# Altium schematic symbol library yu0316-NSC_LDO.SchLib: 2590 symbols (part 51 of 64)
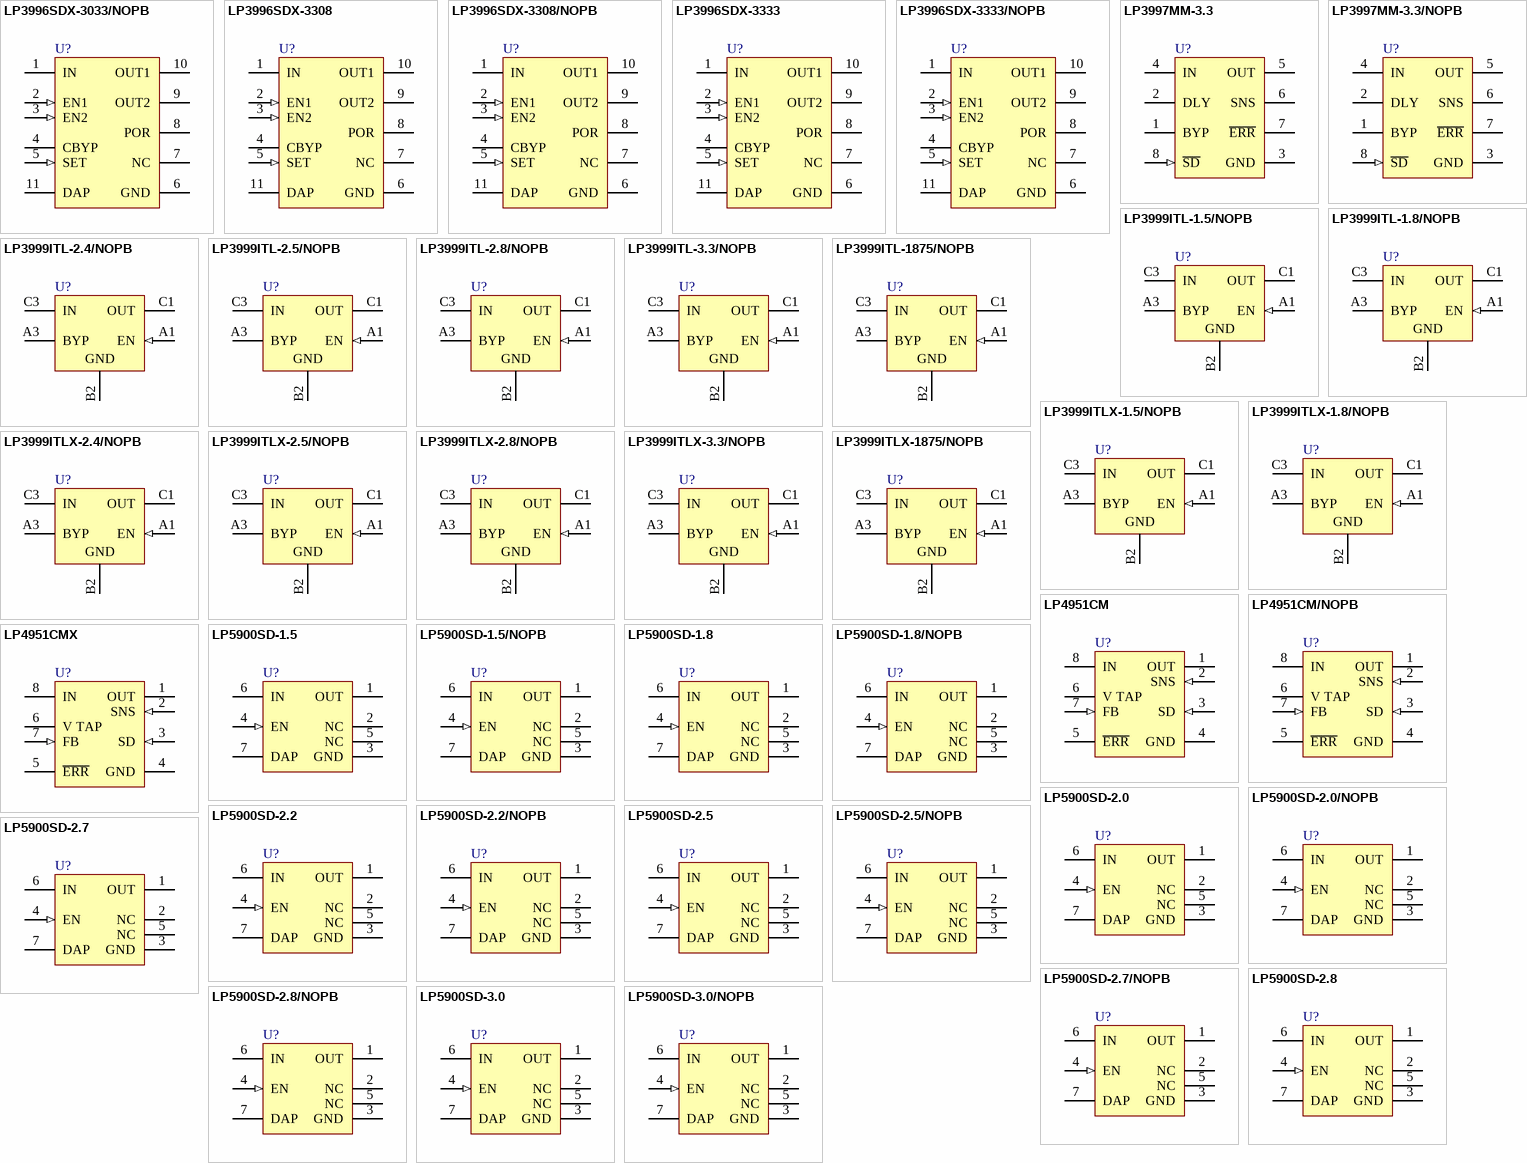
[diagram p115: symbols LP3996SDX-3033/NOPB to LP5900SD-3.0/NOPB]

## LP5900SD-2.0/NOPB
designator U?
Ultra Low Noise, 150mA Linear Regulator for RF/Analog Circuits Requires No Bypass Capacitor, 6-pin LLP, Pb-Free; PartNumber: LP5900SD-2.0/NOPB; Manufacturer: National Semiconductor; PackageTopMarking: XTT*L18; PowerWise: N; CompType: LDO IC; Published: 1-Mar-2010; DatasheetVersion: Jul-2010; PackageVersion: revA, Nov-2003; PackageReference: SDB06A; Publisher: Altium Limited; PackageDescription: LLP, Plastic, Dual, 2.2 x 2.5 x 0.8mm Body, 6 Lead, 0.65mm Pitch, No Pullback; Supplier 1: Digi-Key; Supplier Part Number 1: LP5900SD-2.0TR-ND; Supplier 2: Digi-Key; Supplier Part Number 2: LP5900SD-2.0CT-ND; Supplier 3: Digi-Key; Supplier Part Number 3: LP5900SD-2.0DKR-ND; RoHS: Y; PinCount: 6; ComponentLink1Description: LP5900 Datasheet; ComponentLink1URL: http://www.national.com/ds/LP/LP5900.pdf; ComponentLink2Description: LP5900 Web Page; ComponentLink2URL: http://www.national.com/pf/LP/LP5900.html; ComponentLink3Description: SDB06A Package Page; ComponentLink3URL: http://www.national.com/packaging/folders/sdb06a.html
footprint SDB06A (SON, 6-Leads, Body 2.2x2.5mm, Pitch 0.65mm, NSC Recommended (SC-70 Land))
pins: 1 OUT (power), 2 NC, 3 GND (power), 4 EN (in), 5 NC, 6 IN (power), 7 DAP (power)

## LP5900SD-2.2
designator U?
Ultra Low Noise, 150mA Linear Regulator for RF/Analog Circuits Requires No Bypass Capacitor, 6-pin LLP; PartNumber: LP5900SD-2.2; Manufacturer: National Semiconductor; PackageTopMarking: XTT*L19; PowerWise: N; CompType: LDO IC; Published: 4-Dec-2008; DatasheetVersion: Jul-2010; PackageVersion: revA, Nov-2003; PackageReference: SDB06A; Publisher: Altium Limited; PackageDescription: LLP, Plastic, Dual, 2.2 x 2.5 x 0.8mm Body, 6 Lead, 0.65mm Pitch, No Pullback; Supplier 1: Farnell; Supplier Part Number 1: 1312644; RoHS: N; PinCount: 6; ComponentLink1Description: LP5900 Datasheet; ComponentLink1URL: http://www.national.com/ds/LP/LP5900.pdf; ComponentLink2Description: LP5900 Web Page; ComponentLink2URL: http://www.national.com/pf/LP/LP5900.html; ComponentLink3Description: SDB06A Package Page; ComponentLink3URL: http://www.national.com/packaging/folders/sdb06a.html
footprint SDB06A (SON, 6-Leads, Body 2.2x2.5mm, Pitch 0.65mm, NSC Recommended (SC-70 Land))
pins: 1 OUT (power), 2 NC, 3 GND (power), 4 EN (in), 5 NC, 6 IN (power), 7 DAP (power)

## LP5900SD-2.2/NOPB
designator U?
Ultra Low Noise, 150mA Linear Regulator for RF/Analog Circuits Requires No Bypass Capacitor, 6-pin LLP, Pb-Free; PartNumber: LP5900SD-2.2/NOPB; Manufacturer: National Semiconductor; PackageTopMarking: XTT*L19; PowerWise: N; CompType: LDO IC; Published: 1-Mar-2010; DatasheetVersion: Jul-2010; PackageVersion: revA, Nov-2003; PackageReference: SDB06A; Publisher: Altium Limited; PackageDescription: LLP, Plastic, Dual, 2.2 x 2.5 x 0.8mm Body, 6 Lead, 0.65mm Pitch, No Pullback; Supplier 1: Digi-Key; Supplier Part Number 1: LP5900SD-2.2TR-ND; Supplier 2: Digi-Key; Supplier Part Number 2: LP5900SD-2.2CT-ND; RoHS: Y; PinCount: 6; ComponentLink1Description: LP5900 Datasheet; ComponentLink1URL: http://www.national.com/ds/LP/LP5900.pdf; ComponentLink2Description: LP5900 Web Page; ComponentLink2URL: http://www.national.com/pf/LP/LP5900.html; ComponentLink3Description: SDB06A Package Page; ComponentLink3URL: http://www.national.com/packaging/folders/sdb06a.html
footprint SDB06A (SON, 6-Leads, Body 2.2x2.5mm, Pitch 0.65mm, NSC Recommended (SC-70 Land))
pins: 1 OUT (power), 2 NC, 3 GND (power), 4 EN (in), 5 NC, 6 IN (power), 7 DAP (power)

## LP5900SD-2.5
designator U?
Ultra Low Noise, 150mA Linear Regulator for RF/Analog Circuits Requires No Bypass Capacitor, 6-pin LLP; PartNumber: LP5900SD-2.5; Manufacturer: National Semiconductor; PackageTopMarking: XTT*L13; PowerWise: N; CompType: LDO IC; Published: 4-Dec-2008; DatasheetVersion: Jul-2010; PackageVersion: revA, Nov-2003; PackageReference: SDB06A; Publisher: Altium Limited; PackageDescription: LLP, Plastic, Dual, 2.2 x 2.5 x 0.8mm Body, 6 Lead, 0.65mm Pitch, No Pullback; Supplier 1: Farnell; Supplier Part Number 1: 1312645; RoHS: N; PinCount: 6; ComponentLink1Description: LP5900 Datasheet; ComponentLink1URL: http://www.national.com/ds/LP/LP5900.pdf; ComponentLink2Description: LP5900 Web Page; ComponentLink2URL: http://www.national.com/pf/LP/LP5900.html; ComponentLink3Description: SDB06A Package Page; ComponentLink3URL: http://www.national.com/packaging/folders/sdb06a.html
footprint SDB06A (SON, 6-Leads, Body 2.2x2.5mm, Pitch 0.65mm, NSC Recommended (SC-70 Land))
pins: 1 OUT (power), 2 NC, 3 GND (power), 4 EN (in), 5 NC, 6 IN (power), 7 DAP (power)

## LP5900SD-2.5/NOPB
designator U?
Ultra Low Noise, 150mA Linear Regulator for RF/Analog Circuits Requires No Bypass Capacitor, 6-pin LLP, Pb-Free; PartNumber: LP5900SD-2.5/NOPB; Manufacturer: National Semiconductor; PackageTopMarking: XTT*L13; PowerWise: N; CompType: LDO IC; Published: 1-Mar-2010; DatasheetVersion: Jul-2010; PackageVersion: revA, Nov-2003; PackageReference: SDB06A; Publisher: Altium Limited; PackageDescription: LLP, Plastic, Dual, 2.2 x 2.5 x 0.8mm Body, 6 Lead, 0.65mm Pitch, No Pullback; Supplier 1: Digi-Key; Supplier Part Number 1: LP5900SD-2.5TR-ND; Supplier 2: Digi-Key; Supplier Part Number 2: LP5900SD-2.5CT-ND; Supplier 3: Digi-Key; Supplier Part Number 3: LP5900SD-2.5DKR-ND; Supplier 4: Farnell; Supplier Part Number 4: 1693897; RoHS: Y; PinCount: 6; ComponentLink1Description: LP5900 Datasheet; ComponentLink1URL: http://www.national.com/ds/LP/LP5900.pdf; ComponentLink2Description: LP5900 Web Page; ComponentLink2URL: http://www.national.com/pf/LP/LP5900.html; ComponentLink3Description: SDB06A Package Page; ComponentLink3URL: http://www.national.com/packaging/folders/sdb06a.html
footprint SDB06A (SON, 6-Leads, Body 2.2x2.5mm, Pitch 0.65mm, NSC Recommended (SC-70 Land))
pins: 1 OUT (power), 2 NC, 3 GND (power), 4 EN (in), 5 NC, 6 IN (power), 7 DAP (power)

## LP5900SD-2.7
designator U?
Ultra Low Noise, 150mA Linear Regulator for RF/Analog Circuits Requires No Bypass Capacitor, 6-pin LLP; PartNumber: LP5900SD-2.7; Manufacturer: National Semiconductor; PackageTopMarking: XTT*L14; PowerWise: N; CompType: LDO IC; Published: 4-Dec-2008; DatasheetVersion: Jul-2010; PackageVersion: revA, Nov-2003; PackageReference: SDB06A; Publisher: Altium Limited; PackageDescription: LLP, Plastic, Dual, 2.2 x 2.5 x 0.8mm Body, 6 Lead, 0.65mm Pitch, No Pullback; RoHS: N; PinCount: 6; ComponentLink1Description: LP5900 Datasheet; ComponentLink1URL: http://www.national.com/ds/LP/LP5900.pdf; ComponentLink2Description: LP5900 Web Page; ComponentLink2URL: http://www.national.com/pf/LP/LP5900.html; ComponentLink3Description: SDB06A Package Page; ComponentLink3URL: http://www.national.com/packaging/folders/sdb06a.html
footprint SDB06A (SON, 6-Leads, Body 2.2x2.5mm, Pitch 0.65mm, NSC Recommended (SC-70 Land))
pins: 1 OUT (power), 2 NC, 3 GND (power), 4 EN (in), 5 NC, 6 IN (power), 7 DAP (power)

## LP5900SD-2.7/NOPB
designator U?
Ultra Low Noise, 150mA Linear Regulator for RF/Analog Circuits Requires No Bypass Capacitor, 6-pin LLP, Pb-Free; PartNumber: LP5900SD-2.7/NOPB; Manufacturer: National Semiconductor; PackageTopMarking: XTT*L14; PowerWise: N; CompType: LDO IC; Published: 1-Mar-2010; DatasheetVersion: Jul-2010; PackageVersion: revA, Nov-2003; PackageReference: SDB06A; Publisher: Altium Limited; PackageDescription: LLP, Plastic, Dual, 2.2 x 2.5 x 0.8mm Body, 6 Lead, 0.65mm Pitch, No Pullback; Supplier 1: Digi-Key; Supplier Part Number 1: LP5900SD-2.7TR-ND; Supplier 2: Digi-Key; Supplier Part Number 2: LP5900SD-2.7CT-ND; RoHS: Y; PinCount: 6; ComponentLink1Description: LP5900 Datasheet; ComponentLink1URL: http://www.national.com/ds/LP/LP5900.pdf; ComponentLink2Description: LP5900 Web Page; ComponentLink2URL: http://www.national.com/pf/LP/LP5900.html; ComponentLink3Description: SDB06A Package Page; ComponentLink3URL: http://www.national.com/packaging/folders/sdb06a.html
footprint SDB06A (SON, 6-Leads, Body 2.2x2.5mm, Pitch 0.65mm, NSC Recommended (SC-70 Land))
pins: 1 OUT (power), 2 NC, 3 GND (power), 4 EN (in), 5 NC, 6 IN (power), 7 DAP (power)

## LP5900SD-2.8
designator U?
Ultra Low Noise, 150mA Linear Regulator for RF/Analog Circuits Requires No Bypass Capacitor, 6-pin LLP; PartNumber: LP5900SD-2.8; Manufacturer: National Semiconductor; PackageTopMarking: XTT*L12; PowerWise: N; CompType: LDO IC; Published: 4-Dec-2008; DatasheetVersion: Jul-2010; PackageVersion: revA, Nov-2003; PackageReference: SDB06A; Publisher: Altium Limited; PackageDescription: LLP, Plastic, Dual, 2.2 x 2.5 x 0.8mm Body, 6 Lead, 0.65mm Pitch, No Pullback; Supplier 1: Farnell; Supplier Part Number 1: 1312646; RoHS: N; PinCount: 6; ComponentLink1Description: LP5900 Datasheet; ComponentLink1URL: http://www.national.com/ds/LP/LP5900.pdf; ComponentLink2Description: LP5900 Web Page; ComponentLink2URL: http://www.national.com/pf/LP/LP5900.html; ComponentLink3Description: SDB06A Package Page; ComponentLink3URL: http://www.national.com/packaging/folders/sdb06a.html
footprint SDB06A (SON, 6-Leads, Body 2.2x2.5mm, Pitch 0.65mm, NSC Recommended (SC-70 Land))
pins: 1 OUT (power), 2 NC, 3 GND (power), 4 EN (in), 5 NC, 6 IN (power), 7 DAP (power)

## LP5900SD-2.8/NOPB
designator U?
Ultra Low Noise, 150mA Linear Regulator for RF/Analog Circuits Requires No Bypass Capacitor, 6-pin LLP, Pb-Free; PartNumber: LP5900SD-2.8/NOPB; Manufacturer: National Semiconductor; PackageTopMarking: XTT*L12; PowerWise: N; CompType: LDO IC; Published: 1-Mar-2010; DatasheetVersion: Jul-2010; PackageVersion: revA, Nov-2003; PackageReference: SDB06A; Publisher: Altium Limited; PackageDescription: LLP, Plastic, Dual, 2.2 x 2.5 x 0.8mm Body, 6 Lead, 0.65mm Pitch, No Pullback; Supplier 1: Digi-Key; Supplier Part Number 1: LP5900SD-2.8TR-ND; Supplier 2: Digi-Key; Supplier Part Number 2: LP5900SD-2.8CT-ND; Supplier 3: Digi-Key; Supplier Part Number 3: LP5900SD-2.8DKR-ND; Supplier 4: Farnell; Supplier Part Number 4: 1693898; RoHS: Y; PinCount: 6; ComponentLink1Description: LP5900 Datasheet; ComponentLink1URL: http://www.national.com/ds/LP/LP5900.pdf; ComponentLink2Description: LP5900 Web Page; ComponentLink2URL: http://www.national.com/pf/LP/LP5900.html; ComponentLink3Description: SDB06A Package Page; ComponentLink3URL: http://www.national.com/packaging/folders/sdb06a.html
footprint SDB06A (SON, 6-Leads, Body 2.2x2.5mm, Pitch 0.65mm, NSC Recommended (SC-70 Land))
pins: 1 OUT (power), 2 NC, 3 GND (power), 4 EN (in), 5 NC, 6 IN (power), 7 DAP (power)

## LP5900SD-3.0
designator U?
Ultra Low Noise, 150mA Linear Regulator for RF/Analog Circuits Requires No Bypass Capacitor, 6-pin LLP; PartNumber: LP5900SD-3.0; Manufacturer: National Semiconductor; PackageTopMarking: XTT*L20; PowerWise: N; CompType: LDO IC; Published: 4-Dec-2008; DatasheetVersion: Jul-2010; PackageVersion: revA, Nov-2003; PackageReference: SDB06A; Publisher: Altium Limited; PackageDescription: LLP, Plastic, Dual, 2.2 x 2.5 x 0.8mm Body, 6 Lead, 0.65mm Pitch, No Pullback; Supplier 1: Farnell; Supplier Part Number 1: 1312647; RoHS: Y; PinCount: 6; ComponentLink1Description: LP5900 Datasheet; ComponentLink1URL: http://www.national.com/ds/LP/LP5900.pdf; ComponentLink2Description: LP5900 Web Page; ComponentLink2URL: http://www.national.com/pf/LP/LP5900.html; ComponentLink3Description: SDB06A Package Page; ComponentLink3URL: http://www.national.com/packaging/folders/sdb06a.html
footprint SDB06A (SON, 6-Leads, Body 2.2x2.5mm, Pitch 0.65mm, NSC Recommended (SC-70 Land))
pins: 1 OUT (power), 2 NC, 3 GND (power), 4 EN (in), 5 NC, 6 IN (power), 7 DAP (power)

## LP5900SD-3.0/NOPB
designator U?
Ultra Low Noise, 150mA Linear Regulator for RF/Analog Circuits Requires No Bypass Capacitor, 6-pin LLP, Pb-Free; PartNumber: LP5900SD-3.0/NOPB; Manufacturer: National Semiconductor; PackageTopMarking: XTT*L20; PowerWise: N; CompType: LDO IC; Published: 1-Mar-2010; DatasheetVersion: Jul-2010; PackageVersion: revA, Nov-2003; PackageReference: SDB06A; Publisher: Altium Limited; PackageDescription: LLP, Plastic, Dual, 2.2 x 2.5 x 0.8mm Body, 6 Lead, 0.65mm Pitch, No Pullback; Supplier 1: Digi-Key; Supplier Part Number 1: LP5900SD-3.0TR-ND; Supplier 2: Digi-Key; Supplier Part Number 2: LP5900SD-3.0CT-ND; Supplier 3: Digi-Key; Supplier Part Number 3: LP5900SD-3.0DKR-ND; Supplier 4: Farnell; Supplier Part Number 4: 1559253; RoHS: Y; PinCount: 6; ComponentLink1Description: LP5900 Datasheet; ComponentLink1URL: http://www.national.com/ds/LP/LP5900.pdf; ComponentLink2Description: LP5900 Web Page; ComponentLink2URL: http://www.national.com/pf/LP/LP5900.html; ComponentLink3Description: SDB06A Package Page; ComponentLink3URL: http://www.national.com/packaging/folders/sdb06a.html
footprint SDB06A (SON, 6-Leads, Body 2.2x2.5mm, Pitch 0.65mm, NSC Recommended (SC-70 Land))
pins: 1 OUT (power), 2 NC, 3 GND (power), 4 EN (in), 5 NC, 6 IN (power), 7 DAP (power)

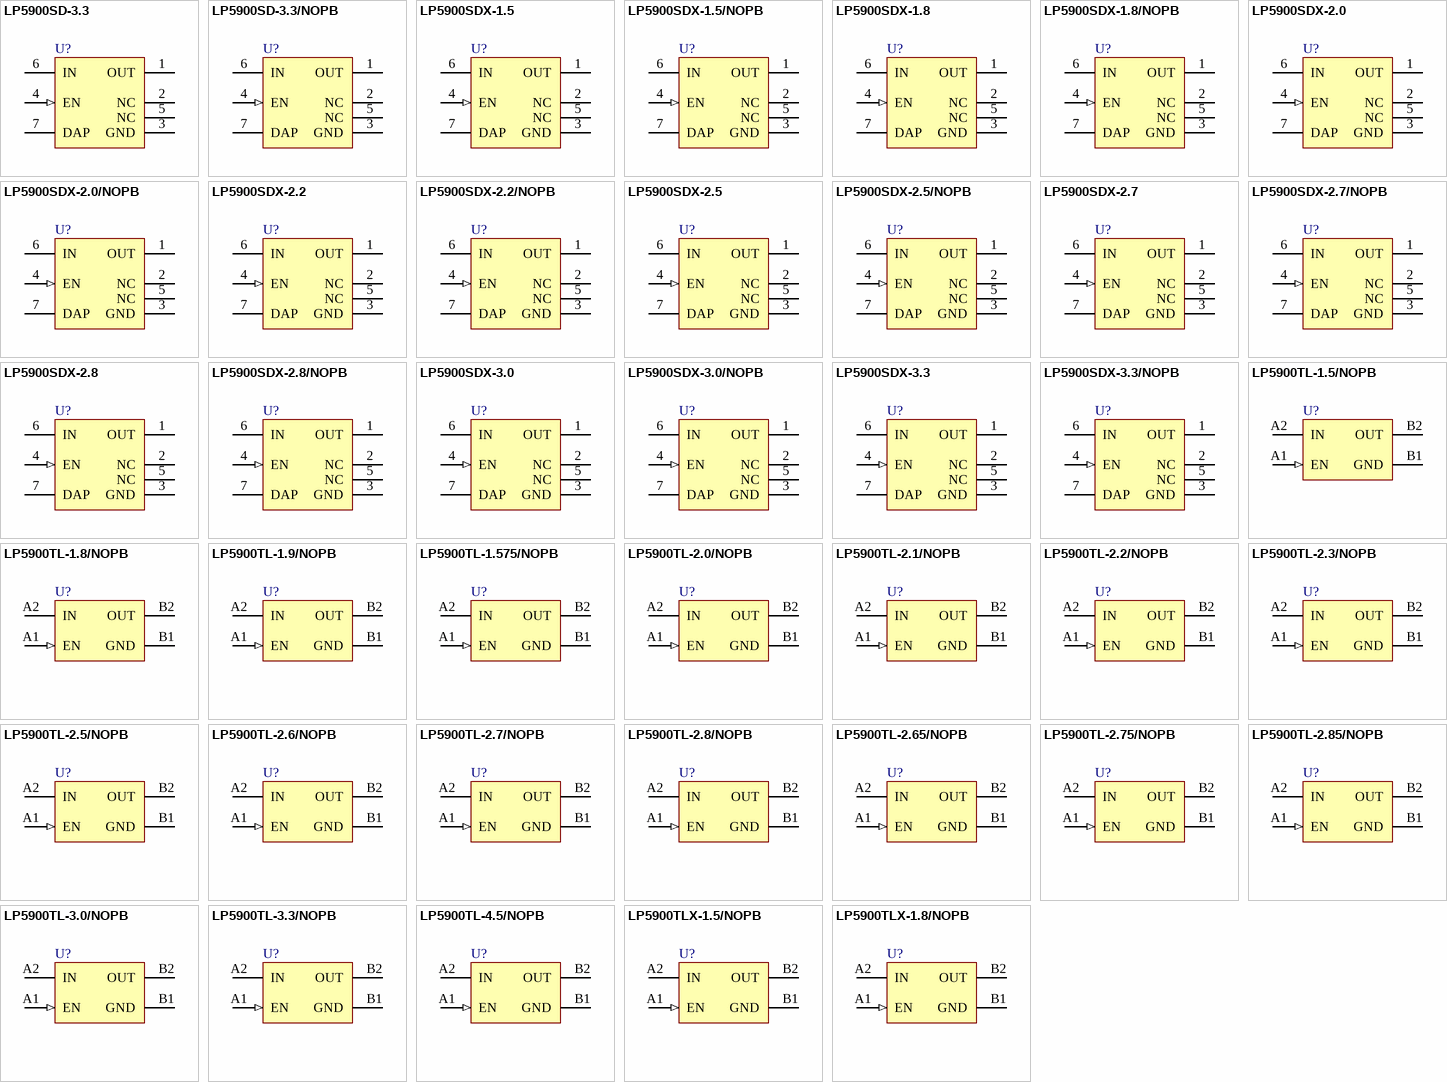
[diagram p52: symbols LP5900SD-3.3 to LP5900TLX-1.8/NOPB]

## LP5900SD-3.3
designator U?
Ultra Low Noise, 150mA Linear Regulator for RF/Analog Circuits Requires No Bypass Capacitor, 6-pin LLP; PartNumber: LP5900SD-3.3; Manufacturer: National Semiconductor; PackageTopMarking: XTT*L16; PowerWise: N; CompType: LDO IC; Published: 4-Dec-2008; DatasheetVersion: Jul-2010; PackageVersion: revA, Nov-2003; PackageReference: SDB06A; Publisher: Altium Limited; PackageDescription: LLP, Plastic, Dual, 2.2 x 2.5 x 0.8mm Body, 6 Lead, 0.65mm Pitch, No Pullback; Supplier 1: Farnell; Supplier Part Number 1: 1312648; RoHS: Y; PinCount: 6; ComponentLink1Description: LP5900 Datasheet; ComponentLink1URL: http://www.national.com/ds/LP/LP5900.pdf; ComponentLink2Description: LP5900 Web Page; ComponentLink2URL: http://www.national.com/pf/LP/LP5900.html; ComponentLink3Description: SDB06A Package Page; ComponentLink3URL: http://www.national.com/packaging/folders/sdb06a.html
footprint SDB06A (SON, 6-Leads, Body 2.2x2.5mm, Pitch 0.65mm, NSC Recommended (SC-70 Land))
pins: 1 OUT (power), 2 NC, 3 GND (power), 4 EN (in), 5 NC, 6 IN (power), 7 DAP (power)

## LP5900SD-3.3/NOPB
designator U?
Ultra Low Noise, 150mA Linear Regulator for RF/Analog Circuits Requires No Bypass Capacitor, 6-pin LLP, Pb-Free; PartNumber: LP5900SD-3.3/NOPB; Manufacturer: National Semiconductor; PackageTopMarking: XTT*L16; PowerWise: N; CompType: LDO IC; Published: 1-Mar-2010; DatasheetVersion: Jul-2010; PackageVersion: revA, Nov-2003; PackageReference: SDB06A; Publisher: Altium Limited; PackageDescription: LLP, Plastic, Dual, 2.2 x 2.5 x 0.8mm Body, 6 Lead, 0.65mm Pitch, No Pullback; Supplier 1: Digi-Key; Supplier Part Number 1: LP5900SD-3.3TR-ND; Supplier 2: Digi-Key; Supplier Part Number 2: LP5900SD-3.3CT-ND; Supplier 3: Digi-Key; Supplier Part Number 3: LP5900SD-3.3DKR-ND; Supplier 4: Farnell; Supplier Part Number 4: 1559255; RoHS: Y; PinCount: 6; ComponentLink1Description: LP5900 Datasheet; ComponentLink1URL: http://www.national.com/ds/LP/LP5900.pdf; ComponentLink2Description: LP5900 Web Page; ComponentLink2URL: http://www.national.com/pf/LP/LP5900.html; ComponentLink3Description: SDB06A Package Page; ComponentLink3URL: http://www.national.com/packaging/folders/sdb06a.html
footprint SDB06A (SON, 6-Leads, Body 2.2x2.5mm, Pitch 0.65mm, NSC Recommended (SC-70 Land))
pins: 1 OUT (power), 2 NC, 3 GND (power), 4 EN (in), 5 NC, 6 IN (power), 7 DAP (power)

## LP5900SDX-1.5
designator U?
Ultra Low Noise, 150mA Linear Regulator for RF/Analog Circuits Requires No Bypass Capacitor, 6-pin LLP; PartNumber: LP5900SDX-1.5; Manufacturer: National Semiconductor; PackageTopMarking: XTT*L15; PowerWise: N; CompType: LDO IC; Published: 1-Mar-2010; DatasheetVersion: Jul-2010; PackageVersion: revA, Nov-2003; PackageReference: SDB06A; Publisher: Altium Limited; PackageDescription: LLP, Plastic, Dual, 2.2 x 2.5 x 0.8mm Body, 6 Lead, 0.65mm Pitch, No Pullback; RoHS: N; PinCount: 6; ComponentLink1Description: LP5900 Datasheet; ComponentLink1URL: http://www.national.com/ds/LP/LP5900.pdf; ComponentLink2Description: LP5900 Web Page; ComponentLink2URL: http://www.national.com/pf/LP/LP5900.html; ComponentLink3Description: SDB06A Package Page; ComponentLink3URL: http://www.national.com/packaging/folders/sdb06a.html
footprint SDB06A (SON, 6-Leads, Body 2.2x2.5mm, Pitch 0.65mm, NSC Recommended (SC-70 Land))
pins: 1 OUT (power), 2 NC, 3 GND (power), 4 EN (in), 5 NC, 6 IN (power), 7 DAP (power)

## LP5900SDX-1.5/NOPB
designator U?
Ultra Low Noise, 150mA Linear Regulator for RF/Analog Circuits Requires No Bypass Capacitor, 6-pin LLP, Pb-Free; PartNumber: LP5900SDX-1.5/NOPB; Manufacturer: National Semiconductor; PackageTopMarking: XTT*L15; PowerWise: N; CompType: LDO IC; Published: 1-Mar-2010; DatasheetVersion: Jul-2010; PackageVersion: revA, Nov-2003; PackageReference: SDB06A; Publisher: Altium Limited; PackageDescription: LLP, Plastic, Dual, 2.2 x 2.5 x 0.8mm Body, 6 Lead, 0.65mm Pitch, No Pullback; Supplier 1: Digi-Key; Supplier Part Number 1: LP5900SDX-1.5-ND; RoHS: Y; PinCount: 6; ComponentLink1Description: LP5900 Datasheet; ComponentLink1URL: http://www.national.com/ds/LP/LP5900.pdf; ComponentLink2Description: LP5900 Web Page; ComponentLink2URL: http://www.national.com/pf/LP/LP5900.html; ComponentLink3Description: SDB06A Package Page; ComponentLink3URL: http://www.national.com/packaging/folders/sdb06a.html
footprint SDB06A (SON, 6-Leads, Body 2.2x2.5mm, Pitch 0.65mm, NSC Recommended (SC-70 Land))
pins: 1 OUT (power), 2 NC, 3 GND (power), 4 EN (in), 5 NC, 6 IN (power), 7 DAP (power)

## LP5900SDX-1.8
designator U?
Ultra Low Noise, 150mA Linear Regulator for RF/Analog Circuits Requires No Bypass Capacitor, 6-pin LLP; PartNumber: LP5900SDX-1.8; Manufacturer: National Semiconductor; PackageTopMarking: XTT*L17; PowerWise: N; CompType: LDO IC; Published: 1-Mar-2010; DatasheetVersion: Jul-2010; PackageVersion: revA, Nov-2003; PackageReference: SDB06A; Publisher: Altium Limited; PackageDescription: LLP, Plastic, Dual, 2.2 x 2.5 x 0.8mm Body, 6 Lead, 0.65mm Pitch, No Pullback; RoHS: N; PinCount: 6; ComponentLink1Description: LP5900 Datasheet; ComponentLink1URL: http://www.national.com/ds/LP/LP5900.pdf; ComponentLink2Description: LP5900 Web Page; ComponentLink2URL: http://www.national.com/pf/LP/LP5900.html; ComponentLink3Description: SDB06A Package Page; ComponentLink3URL: http://www.national.com/packaging/folders/sdb06a.html
footprint SDB06A (SON, 6-Leads, Body 2.2x2.5mm, Pitch 0.65mm, NSC Recommended (SC-70 Land))
pins: 1 OUT (power), 2 NC, 3 GND (power), 4 EN (in), 5 NC, 6 IN (power), 7 DAP (power)

## LP5900SDX-1.8/NOPB
designator U?
Ultra Low Noise, 150mA Linear Regulator for RF/Analog Circuits Requires No Bypass Capacitor, 6-pin LLP, Pb-Free; PartNumber: LP5900SDX-1.8/NOPB; Manufacturer: National Semiconductor; PackageTopMarking: XTT*L17; PowerWise: N; CompType: LDO IC; Published: 1-Mar-2010; DatasheetVersion: Jul-2010; PackageVersion: revA, Nov-2003; PackageReference: SDB06A; Publisher: Altium Limited; PackageDescription: LLP, Plastic, Dual, 2.2 x 2.5 x 0.8mm Body, 6 Lead, 0.65mm Pitch, No Pullback; Supplier 1: Digi-Key; Supplier Part Number 1: LP5900SDX-1.8-ND; RoHS: Y; PinCount: 6; ComponentLink1Description: LP5900 Datasheet; ComponentLink1URL: http://www.national.com/ds/LP/LP5900.pdf; ComponentLink2Description: LP5900 Web Page; ComponentLink2URL: http://www.national.com/pf/LP/LP5900.html; ComponentLink3Description: SDB06A Package Page; ComponentLink3URL: http://www.national.com/packaging/folders/sdb06a.html
footprint SDB06A (SON, 6-Leads, Body 2.2x2.5mm, Pitch 0.65mm, NSC Recommended (SC-70 Land))
pins: 1 OUT (power), 2 NC, 3 GND (power), 4 EN (in), 5 NC, 6 IN (power), 7 DAP (power)

## LP5900SDX-2.0
designator U?
Ultra Low Noise, 150mA Linear Regulator for RF/Analog Circuits Requires No Bypass Capacitor, 6-pin LLP; PartNumber: LP5900SDX-2.0; Manufacturer: National Semiconductor; PackageTopMarking: XTT*L18; PowerWise: N; CompType: LDO IC; Published: 1-Mar-2010; DatasheetVersion: Jul-2010; PackageVersion: revA, Nov-2003; PackageReference: SDB06A; Publisher: Altium Limited; PackageDescription: LLP, Plastic, Dual, 2.2 x 2.5 x 0.8mm Body, 6 Lead, 0.65mm Pitch, No Pullback; RoHS: N; PinCount: 6; ComponentLink1Description: LP5900 Datasheet; ComponentLink1URL: http://www.national.com/ds/LP/LP5900.pdf; ComponentLink2Description: LP5900 Web Page; ComponentLink2URL: http://www.national.com/pf/LP/LP5900.html; ComponentLink3Description: SDB06A Package Page; ComponentLink3URL: http://www.national.com/packaging/folders/sdb06a.html
footprint SDB06A (SON, 6-Leads, Body 2.2x2.5mm, Pitch 0.65mm, NSC Recommended (SC-70 Land))
pins: 1 OUT (power), 2 NC, 3 GND (power), 4 EN (in), 5 NC, 6 IN (power), 7 DAP (power)

## LP5900SDX-2.0/NOPB
designator U?
Ultra Low Noise, 150mA Linear Regulator for RF/Analog Circuits Requires No Bypass Capacitor, 6-pin LLP, Pb-Free; PartNumber: LP5900SDX-2.0/NOPB; Manufacturer: National Semiconductor; PackageTopMarking: XTT*L18; PowerWise: N; CompType: LDO IC; Published: 1-Mar-2010; DatasheetVersion: Jul-2010; PackageVersion: revA, Nov-2003; PackageReference: SDB06A; Publisher: Altium Limited; PackageDescription: LLP, Plastic, Dual, 2.2 x 2.5 x 0.8mm Body, 6 Lead, 0.65mm Pitch, No Pullback; Supplier 1: Digi-Key; Supplier Part Number 1: LP5900SDX-2.0-ND; RoHS: Y; PinCount: 6; ComponentLink1Description: LP5900 Datasheet; ComponentLink1URL: http://www.national.com/ds/LP/LP5900.pdf; ComponentLink2Description: LP5900 Web Page; ComponentLink2URL: http://www.national.com/pf/LP/LP5900.html; ComponentLink3Description: SDB06A Package Page; ComponentLink3URL: http://www.national.com/packaging/folders/sdb06a.html
footprint SDB06A (SON, 6-Leads, Body 2.2x2.5mm, Pitch 0.65mm, NSC Recommended (SC-70 Land))
pins: 1 OUT (power), 2 NC, 3 GND (power), 4 EN (in), 5 NC, 6 IN (power), 7 DAP (power)

## LP5900SDX-2.2
designator U?
Ultra Low Noise, 150mA Linear Regulator for RF/Analog Circuits Requires No Bypass Capacitor, 6-pin LLP; PartNumber: LP5900SDX-2.2; Manufacturer: National Semiconductor; PackageTopMarking: XTT*L19; PowerWise: N; CompType: LDO IC; Published: 1-Mar-2010; DatasheetVersion: Jul-2010; PackageVersion: revA, Nov-2003; PackageReference: SDB06A; Publisher: Altium Limited; PackageDescription: LLP, Plastic, Dual, 2.2 x 2.5 x 0.8mm Body, 6 Lead, 0.65mm Pitch, No Pullback; RoHS: N; PinCount: 6; ComponentLink1Description: LP5900 Datasheet; ComponentLink1URL: http://www.national.com/ds/LP/LP5900.pdf; ComponentLink2Description: LP5900 Web Page; ComponentLink2URL: http://www.national.com/pf/LP/LP5900.html; ComponentLink3Description: SDB06A Package Page; ComponentLink3URL: http://www.national.com/packaging/folders/sdb06a.html
footprint SDB06A (SON, 6-Leads, Body 2.2x2.5mm, Pitch 0.65mm, NSC Recommended (SC-70 Land))
pins: 1 OUT (power), 2 NC, 3 GND (power), 4 EN (in), 5 NC, 6 IN (power), 7 DAP (power)

## LP5900SDX-2.2/NOPB
designator U?
Ultra Low Noise, 150mA Linear Regulator for RF/Analog Circuits Requires No Bypass Capacitor, 6-pin LLP, Pb-Free; PartNumber: LP5900SDX-2.2/NOPB; Manufacturer: National Semiconductor; PackageTopMarking: XTT*L19; PowerWise: N; CompType: LDO IC; Published: 1-Mar-2010; DatasheetVersion: Jul-2010; PackageVersion: revA, Nov-2003; PackageReference: SDB06A; Publisher: Altium Limited; PackageDescription: LLP, Plastic, Dual, 2.2 x 2.5 x 0.8mm Body, 6 Lead, 0.65mm Pitch, No Pullback; Supplier 1: Digi-Key; Supplier Part Number 1: LP5900SDX-2.2-ND; RoHS: Y; PinCount: 6; ComponentLink1Description: LP5900 Datasheet; ComponentLink1URL: http://www.national.com/ds/LP/LP5900.pdf; ComponentLink2Description: LP5900 Web Page; ComponentLink2URL: http://www.national.com/pf/LP/LP5900.html; ComponentLink3Description: SDB06A Package Page; ComponentLink3URL: http://www.national.com/packaging/folders/sdb06a.html
footprint SDB06A (SON, 6-Leads, Body 2.2x2.5mm, Pitch 0.65mm, NSC Recommended (SC-70 Land))
pins: 1 OUT (power), 2 NC, 3 GND (power), 4 EN (in), 5 NC, 6 IN (power), 7 DAP (power)

## LP5900SDX-2.5
designator U?
Ultra Low Noise, 150mA Linear Regulator for RF/Analog Circuits Requires No Bypass Capacitor, 6-pin LLP; PartNumber: LP5900SDX-2.5; Manufacturer: National Semiconductor; PackageTopMarking: XTT*L13; PowerWise: N; CompType: LDO IC; Published: 1-Mar-2010; DatasheetVersion: Jul-2010; PackageVersion: revA, Nov-2003; PackageReference: SDB06A; Publisher: Altium Limited; PackageDescription: LLP, Plastic, Dual, 2.2 x 2.5 x 0.8mm Body, 6 Lead, 0.65mm Pitch, No Pullback; RoHS: N; PinCount: 6; ComponentLink1Description: LP5900 Datasheet; ComponentLink1URL: http://www.national.com/ds/LP/LP5900.pdf; ComponentLink2Description: LP5900 Web Page; ComponentLink2URL: http://www.national.com/pf/LP/LP5900.html; ComponentLink3Description: SDB06A Package Page; ComponentLink3URL: http://www.national.com/packaging/folders/sdb06a.html
footprint SDB06A (SON, 6-Leads, Body 2.2x2.5mm, Pitch 0.65mm, NSC Recommended (SC-70 Land))
pins: 1 OUT (power), 2 NC, 3 GND (power), 4 EN (in), 5 NC, 6 IN (power), 7 DAP (power)

## LP5900SDX-2.5/NOPB
designator U?
Ultra Low Noise, 150mA Linear Regulator for RF/Analog Circuits Requires No Bypass Capacitor, 6-pin LLP, Pb-Free; PartNumber: LP5900SDX-2.5/NOPB; Manufacturer: National Semiconductor; PackageTopMarking: XTT*L13; PowerWise: N; CompType: LDO IC; Published: 1-Mar-2010; DatasheetVersion: Jul-2010; PackageVersion: revA, Nov-2003; PackageReference: SDB06A; Publisher: Altium Limited; PackageDescription: LLP, Plastic, Dual, 2.2 x 2.5 x 0.8mm Body, 6 Lead, 0.65mm Pitch, No Pullback; Supplier 1: Digi-Key; Supplier Part Number 1: LP5900SDX-2.5-ND; RoHS: Y; PinCount: 6; ComponentLink1Description: LP5900 Datasheet; ComponentLink1URL: http://www.national.com/ds/LP/LP5900.pdf; ComponentLink2Description: LP5900 Web Page; ComponentLink2URL: http://www.national.com/pf/LP/LP5900.html; ComponentLink3Description: SDB06A Package Page; ComponentLink3URL: http://www.national.com/packaging/folders/sdb06a.html
footprint SDB06A (SON, 6-Leads, Body 2.2x2.5mm, Pitch 0.65mm, NSC Recommended (SC-70 Land))
pins: 1 OUT (power), 2 NC, 3 GND (power), 4 EN (in), 5 NC, 6 IN (power), 7 DAP (power)

## LP5900SDX-2.7
designator U?
Ultra Low Noise, 150mA Linear Regulator for RF/Analog Circuits Requires No Bypass Capacitor, 6-pin LLP; PartNumber: LP5900SDX-2.7; Manufacturer: National Semiconductor; PackageTopMarking: XTT*L14; PowerWise: N; CompType: LDO IC; Published: 1-Mar-2010; DatasheetVersion: Jul-2010; PackageVersion: revA, Nov-2003; PackageReference: SDB06A; Publisher: Altium Limited; PackageDescription: LLP, Plastic, Dual, 2.2 x 2.5 x 0.8mm Body, 6 Lead, 0.65mm Pitch, No Pullback; RoHS: N; PinCount: 6; ComponentLink1Description: LP5900 Datasheet; ComponentLink1URL: http://www.national.com/ds/LP/LP5900.pdf; ComponentLink2Description: LP5900 Web Page; ComponentLink2URL: http://www.national.com/pf/LP/LP5900.html; ComponentLink3Description: SDB06A Package Page; ComponentLink3URL: http://www.national.com/packaging/folders/sdb06a.html
footprint SDB06A (SON, 6-Leads, Body 2.2x2.5mm, Pitch 0.65mm, NSC Recommended (SC-70 Land))
pins: 1 OUT (power), 2 NC, 3 GND (power), 4 EN (in), 5 NC, 6 IN (power), 7 DAP (power)

## LP5900SDX-2.7/NOPB
designator U?
Ultra Low Noise, 150mA Linear Regulator for RF/Analog Circuits Requires No Bypass Capacitor, 6-pin LLP, Pb-Free; PartNumber: LP5900SDX-2.7/NOPB; Manufacturer: National Semiconductor; PackageTopMarking: XTT*L14; PowerWise: N; CompType: LDO IC; Published: 1-Mar-2010; DatasheetVersion: Jul-2010; PackageVersion: revA, Nov-2003; PackageReference: SDB06A; Publisher: Altium Limited; PackageDescription: LLP, Plastic, Dual, 2.2 x 2.5 x 0.8mm Body, 6 Lead, 0.65mm Pitch, No Pullback; Supplier 1: Digi-Key; Supplier Part Number 1: LP5900SDX-2.7-ND; RoHS: Y; PinCount: 6; ComponentLink1Description: LP5900 Datasheet; ComponentLink1URL: http://www.national.com/ds/LP/LP5900.pdf; ComponentLink2Description: LP5900 Web Page; ComponentLink2URL: http://www.national.com/pf/LP/LP5900.html; ComponentLink3Description: SDB06A Package Page; ComponentLink3URL: http://www.national.com/packaging/folders/sdb06a.html
footprint SDB06A (SON, 6-Leads, Body 2.2x2.5mm, Pitch 0.65mm, NSC Recommended (SC-70 Land))
pins: 1 OUT (power), 2 NC, 3 GND (power), 4 EN (in), 5 NC, 6 IN (power), 7 DAP (power)

## LP5900SDX-2.8
designator U?
Ultra Low Noise, 150mA Linear Regulator for RF/Analog Circuits Requires No Bypass Capacitor, 6-pin LLP; PartNumber: LP5900SDX-2.8; Manufacturer: National Semiconductor; PackageTopMarking: XTT*L12; PowerWise: N; CompType: LDO IC; Published: 1-Mar-2010; DatasheetVersion: Jul-2010; PackageVersion: revA, Nov-2003; PackageReference: SDB06A; Publisher: Altium Limited; PackageDescription: LLP, Plastic, Dual, 2.2 x 2.5 x 0.8mm Body, 6 Lead, 0.65mm Pitch, No Pullback; RoHS: N; PinCount: 6; ComponentLink1Description: LP5900 Datasheet; ComponentLink1URL: http://www.national.com/ds/LP/LP5900.pdf; ComponentLink2Description: LP5900 Web Page; ComponentLink2URL: http://www.national.com/pf/LP/LP5900.html; ComponentLink3Description: SDB06A Package Page; ComponentLink3URL: http://www.national.com/packaging/folders/sdb06a.html
footprint SDB06A (SON, 6-Leads, Body 2.2x2.5mm, Pitch 0.65mm, NSC Recommended (SC-70 Land))
pins: 1 OUT (power), 2 NC, 3 GND (power), 4 EN (in), 5 NC, 6 IN (power), 7 DAP (power)

## LP5900SDX-2.8/NOPB
designator U?
Ultra Low Noise, 150mA Linear Regulator for RF/Analog Circuits Requires No Bypass Capacitor, 6-pin LLP, Pb-Free; PartNumber: LP5900SDX-2.8/NOPB; Manufacturer: National Semiconductor; PackageTopMarking: XTT*L12; PowerWise: N; CompType: LDO IC; Published: 1-Mar-2010; DatasheetVersion: Jul-2010; PackageVersion: revA, Nov-2003; PackageReference: SDB06A; Publisher: Altium Limited; PackageDescription: LLP, Plastic, Dual, 2.2 x 2.5 x 0.8mm Body, 6 Lead, 0.65mm Pitch, No Pullback; Supplier 1: Digi-Key; Supplier Part Number 1: LP5900SDX-2.8-ND; RoHS: Y; PinCount: 6; ComponentLink1Description: LP5900 Datasheet; ComponentLink1URL: http://www.national.com/ds/LP/LP5900.pdf; ComponentLink2Description: LP5900 Web Page; ComponentLink2URL: http://www.national.com/pf/LP/LP5900.html; ComponentLink3Description: SDB06A Package Page; ComponentLink3URL: http://www.national.com/packaging/folders/sdb06a.html
footprint SDB06A (SON, 6-Leads, Body 2.2x2.5mm, Pitch 0.65mm, NSC Recommended (SC-70 Land))
pins: 1 OUT (power), 2 NC, 3 GND (power), 4 EN (in), 5 NC, 6 IN (power), 7 DAP (power)

## LP5900SDX-3.0
designator U?
Ultra Low Noise, 150mA Linear Regulator for RF/Analog Circuits Requires No Bypass Capacitor, 6-pin LLP; PartNumber: LP5900SDX-3.0; Manufacturer: National Semiconductor; PackageTopMarking: XTT*L20; PowerWise: N; CompType: LDO IC; Published: 1-Mar-2010; DatasheetVersion: Jul-2010; PackageVersion: revA, Nov-2003; PackageReference: SDB06A; Publisher: Altium Limited; PackageDescription: LLP, Plastic, Dual, 2.2 x 2.5 x 0.8mm Body, 6 Lead, 0.65mm Pitch, No Pullback; RoHS: N; PinCount: 6; ComponentLink1Description: LP5900 Datasheet; ComponentLink1URL: http://www.national.com/ds/LP/LP5900.pdf; ComponentLink2Description: LP5900 Web Page; ComponentLink2URL: http://www.national.com/pf/LP/LP5900.html; ComponentLink3Description: SDB06A Package Page; ComponentLink3URL: http://www.national.com/packaging/folders/sdb06a.html
footprint SDB06A (SON, 6-Leads, Body 2.2x2.5mm, Pitch 0.65mm, NSC Recommended (SC-70 Land))
pins: 1 OUT (power), 2 NC, 3 GND (power), 4 EN (in), 5 NC, 6 IN (power), 7 DAP (power)

## LP5900SDX-3.0/NOPB
designator U?
Ultra Low Noise, 150mA Linear Regulator for RF/Analog Circuits Requires No Bypass Capacitor, 6-pin LLP, Pb-Free; PartNumber: LP5900SDX-3.0/NOPB; Manufacturer: National Semiconductor; PackageTopMarking: XTT*L20; PowerWise: N; CompType: LDO IC; Published: 1-Mar-2010; DatasheetVersion: Jul-2010; PackageVersion: revA, Nov-2003; PackageReference: SDB06A; Publisher: Altium Limited; PackageDescription: LLP, Plastic, Dual, 2.2 x 2.5 x 0.8mm Body, 6 Lead, 0.65mm Pitch, No Pullback; Supplier 1: Digi-Key; Supplier Part Number 1: LP5900SDX-3.0-ND; RoHS: Y; PinCount: 6; ComponentLink1Description: LP5900 Datasheet; ComponentLink1URL: http://www.national.com/ds/LP/LP5900.pdf; ComponentLink2Description: LP5900 Web Page; ComponentLink2URL: http://www.national.com/pf/LP/LP5900.html; ComponentLink3Description: SDB06A Package Page; ComponentLink3URL: http://www.national.com/packaging/folders/sdb06a.html
footprint SDB06A (SON, 6-Leads, Body 2.2x2.5mm, Pitch 0.65mm, NSC Recommended (SC-70 Land))
pins: 1 OUT (power), 2 NC, 3 GND (power), 4 EN (in), 5 NC, 6 IN (power), 7 DAP (power)

## LP5900SDX-3.3
designator U?
Ultra Low Noise, 150mA Linear Regulator for RF/Analog Circuits Requires No Bypass Capacitor, 6-pin LLP; PartNumber: LP5900SDX-3.3; Manufacturer: National Semiconductor; PackageTopMarking: XTT*L16; PowerWise: N; CompType: LDO IC; Published: 1-Mar-2010; DatasheetVersion: Jul-2010; PackageVersion: revA, Nov-2003; PackageReference: SDB06A; Publisher: Altium Limited; PackageDescription: LLP, Plastic, Dual, 2.2 x 2.5 x 0.8mm Body, 6 Lead, 0.65mm Pitch, No Pullback; RoHS: N; PinCount: 6; ComponentLink1Description: LP5900 Datasheet; ComponentLink1URL: http://www.national.com/ds/LP/LP5900.pdf; ComponentLink2Description: LP5900 Web Page; ComponentLink2URL: http://www.national.com/pf/LP/LP5900.html; ComponentLink3Description: SDB06A Package Page; ComponentLink3URL: http://www.national.com/packaging/folders/sdb06a.html
footprint SDB06A (SON, 6-Leads, Body 2.2x2.5mm, Pitch 0.65mm, NSC Recommended (SC-70 Land))
pins: 1 OUT (power), 2 NC, 3 GND (power), 4 EN (in), 5 NC, 6 IN (power), 7 DAP (power)

## LP5900SDX-3.3/NOPB
designator U?
Ultra Low Noise, 150mA Linear Regulator for RF/Analog Circuits Requires No Bypass Capacitor, 6-pin LLP, Pb-Free; PartNumber: LP5900SDX-3.3/NOPB; Manufacturer: National Semiconductor; PackageTopMarking: XTT*L16; PowerWise: N; CompType: LDO IC; Published: 1-Mar-2010; DatasheetVersion: Jul-2010; PackageVersion: revA, Nov-2003; PackageReference: SDB06A; Publisher: Altium Limited; PackageDescription: LLP, Plastic, Dual, 2.2 x 2.5 x 0.8mm Body, 6 Lead, 0.65mm Pitch, No Pullback; Supplier 1: Digi-Key; Supplier Part Number 1: LP5900SDX-3.3-ND; RoHS: Y; PinCount: 6; ComponentLink1Description: LP5900 Datasheet; ComponentLink1URL: http://www.national.com/ds/LP/LP5900.pdf; ComponentLink2Description: LP5900 Web Page; ComponentLink2URL: http://www.national.com/pf/LP/LP5900.html; ComponentLink3Description: SDB06A Package Page; ComponentLink3URL: http://www.national.com/packaging/folders/sdb06a.html
footprint SDB06A (SON, 6-Leads, Body 2.2x2.5mm, Pitch 0.65mm, NSC Recommended (SC-70 Land))
pins: 1 OUT (power), 2 NC, 3 GND (power), 4 EN (in), 5 NC, 6 IN (power), 7 DAP (power)

## LP5900TL-1.5/NOPB
designator U?
Ultra Low Noise, 150mA Linear Regulator for RF/Analog Circuits Requires No Bypass Capacitor, 4-pin Micro SMD, Pb-Free; PartNumber: LP5900TL-1.5/NOPB; Manufacturer: National Semiconductor; PackageTopMarking: X*I; PowerWise: N; CompType: LDO IC; Published: 1-Mar-2010; DatasheetVersion: Jul-2010; PackageVersion: revD, Mar-2005; PackageReference: TLA04BCA; Publisher: Altium Limited; PackageDescription: Thin Micro SMD, 4 Bump (Large), 0.5mm Pitch; Supplier 1: Digi-Key; Supplier Part Number 1: LP5900TL-1.5TR-ND; Supplier 2: Digi-Key; Supplier Part Number 2: LP5900TL-1.5CT-ND; Supplier 3: Digi-Key; Supplier Part Number 3: LP5900TL-1.5DKR-ND; RoHS: Y; PinCount: 4; Code_JEDEC: MO-211-BA; ComponentLink1Description: LP5900 Datasheet; ComponentLink1URL: http://www.national.com/ds/LP/LP5900.pdf; ComponentLink2Description: LP5900 Web Page; ComponentLink2URL: http://www.national.com/pf/LP/LP5900.html; ComponentLink3Description: TLA04BCA Package Page; ComponentLink3URL: http://www.national.com/packaging/folders/tla04bca.html
footprint TLA04BCA (Micro SMD, 4-Leads, Body 1.07x1.04mm, Pitch 0.5mm, NSC Recommended)
pins: A1 EN (in), A2 IN (power), B1 GND (power), B2 OUT (power)

## LP5900TL-1.8/NOPB
designator U?
Ultra Low Noise, 150mA Linear Regulator for RF/Analog Circuits Requires No Bypass Capacitor, 4-pin Micro SMD, Pb-Free; PartNumber: LP5900TL-1.8/NOPB; Manufacturer: National Semiconductor; PackageTopMarking: X*I; PowerWise: N; CompType: LDO IC; Published: 1-Mar-2010; DatasheetVersion: Jul-2010; PackageVersion: revD, Mar-2005; PackageReference: TLA04BCA; Publisher: Altium Limited; PackageDescription: Thin Micro SMD, 4 Bump (Large), 0.5mm Pitch; Supplier 1: Digi-Key; Supplier Part Number 1: LP5900TL-1.8TR-ND; Supplier 2: Digi-Key; Supplier Part Number 2: LP5900TL-1.8CT-ND; Supplier 3: Digi-Key; Supplier Part Number 3: LP5900TL-1.8DKR-ND; RoHS: Y; PinCount: 4; Code_JEDEC: MO-211-BA; ComponentLink1Description: LP5900 Datasheet; ComponentLink1URL: http://www.national.com/ds/LP/LP5900.pdf; ComponentLink2Description: LP5900 Web Page; ComponentLink2URL: http://www.national.com/pf/LP/LP5900.html; ComponentLink3Description: TLA04BCA Package Page; ComponentLink3URL: http://www.national.com/packaging/folders/tla04bca.html
footprint TLA04BCA (Micro SMD, 4-Leads, Body 1.07x1.04mm, Pitch 0.5mm, NSC Recommended)
pins: A1 EN (in), A2 IN (power), B1 GND (power), B2 OUT (power)

## LP5900TL-1.9/NOPB
designator U?
Ultra Low Noise, 150mA Linear Regulator for RF/Analog Circuits Requires No Bypass Capacitor, 4-pin Micro SMD, Pb-Free; PartNumber: LP5900TL-1.9/NOPB; Manufacturer: National Semiconductor; PackageTopMarking: X*I; PowerWise: N; CompType: LDO IC; Published: 1-Mar-2010; DatasheetVersion: Jul-2010; PackageVersion: revD, Mar-2005; PackageReference: TLA04BCA; Publisher: Altium Limited; PackageDescription: Thin Micro SMD, 4 Bump (Large), 0.5mm Pitch; Supplier 1: Digi-Key; Supplier Part Number 1: LP5900TL-1.9TR-ND; Supplier 2: Digi-Key; Supplier Part Number 2: LP5900TL-1.9CT-ND; Supplier 3: Digi-Key; Supplier Part Number 3: LP5900TL-1.9DKR-ND; RoHS: Y; PinCount: 4; Code_JEDEC: MO-211-BA; ComponentLink1Description: LP5900 Datasheet; ComponentLink1URL: http://www.national.com/ds/LP/LP5900.pdf; ComponentLink2Description: LP5900 Web Page; ComponentLink2URL: http://www.national.com/pf/LP/LP5900.html; ComponentLink3Description: TLA04BCA Package Page; ComponentLink3URL: http://www.national.com/packaging/folders/tla04bca.html
footprint TLA04BCA (Micro SMD, 4-Leads, Body 1.07x1.04mm, Pitch 0.5mm, NSC Recommended)
pins: A1 EN (in), A2 IN (power), B1 GND (power), B2 OUT (power)

## LP5900TL-1.575/NOPB
designator U?
Ultra Low Noise, 150mA Linear Regulator for RF/Analog Circuits Requires No Bypass Capacitor, 4-pin Micro SMD, Pb-Free; PartNumber: LP5900TL-1.575/NOPB; Manufacturer: National Semiconductor; PackageTopMarking: X*I; PowerWise: N; CompType: LDO IC; Published: 1-Mar-2010; DatasheetVersion: Jul-2010; PackageVersion: revD, Mar-2005; PackageReference: TLA04BCA; Publisher: Altium Limited; PackageDescription: Thin Micro SMD, 4 Bump (Large), 0.5mm Pitch; Supplier 1: Digi-Key; Supplier Part Number 1: LP5900TL-1.575/NOPBTR-ND; Supplier 2: Digi-Key; Supplier Part Number 2: LP5900TL-1.575/NOPBCT-ND; Supplier 3: Digi-Key; Supplier Part Number 3: LP5900TL-1.575/NOPBDKR-ND; RoHS: Y; PinCount: 4; Code_JEDEC: MO-211-BA; ComponentLink1Description: LP5900 Datasheet; ComponentLink1URL: http://www.national.com/ds/LP/LP5900.pdf; ComponentLink2Description: LP5900 Web Page; ComponentLink2URL: http://www.national.com/pf/LP/LP5900.html; ComponentLink3Description: TLA04BCA Package Page; ComponentLink3URL: http://www.national.com/packaging/folders/tla04bca.html
footprint TLA04BCA (Micro SMD, 4-Leads, Body 1.07x1.04mm, Pitch 0.5mm, NSC Recommended)
pins: A1 EN (in), A2 IN (power), B1 GND (power), B2 OUT (power)

## LP5900TL-2.0/NOPB
designator U?
Ultra Low Noise, 150mA Linear Regulator for RF/Analog Circuits Requires No Bypass Capacitor, 4-pin Micro SMD, Pb-Free; PartNumber: LP5900TL-2.0/NOPB; Manufacturer: National Semiconductor; PackageTopMarking: X*I; PowerWise: N; CompType: LDO IC; Published: 1-Mar-2010; DatasheetVersion: Jul-2010; PackageVersion: revD, Mar-2005; PackageReference: TLA04BCA; Publisher: Altium Limited; PackageDescription: Thin Micro SMD, 4 Bump (Large), 0.5mm Pitch; Supplier 1: Digi-Key; Supplier Part Number 1: LP5900TL-2.0TR-ND; Supplier 2: Digi-Key; Supplier Part Number 2: LP5900TL-2.0CT-ND; Supplier 3: Digi-Key; Supplier Part Number 3: LP5900TL-2.0DKR-ND; RoHS: Y; PinCount: 4; Code_JEDEC: MO-211-BA; ComponentLink1Description: LP5900 Datasheet; ComponentLink1URL: http://www.national.com/ds/LP/LP5900.pdf; ComponentLink2Description: LP5900 Web Page; ComponentLink2URL: http://www.national.com/pf/LP/LP5900.html; ComponentLink3Description: TLA04BCA Package Page; ComponentLink3URL: http://www.national.com/packaging/folders/tla04bca.html
footprint TLA04BCA (Micro SMD, 4-Leads, Body 1.07x1.04mm, Pitch 0.5mm, NSC Recommended)
pins: A1 EN (in), A2 IN (power), B1 GND (power), B2 OUT (power)

## LP5900TL-2.1/NOPB
designator U?
Ultra Low Noise, 150mA Linear Regulator for RF/Analog Circuits Requires No Bypass Capacitor, 4-pin Micro SMD, Pb-Free; PartNumber: LP5900TL-2.1/NOPB; Manufacturer: National Semiconductor; PackageTopMarking: X*I; PowerWise: N; CompType: LDO IC; Published: 1-Mar-2010; DatasheetVersion: Jul-2010; PackageVersion: revD, Mar-2005; PackageReference: TLA04BCA; Publisher: Altium Limited; PackageDescription: Thin Micro SMD, 4 Bump (Large), 0.5mm Pitch; Supplier 1: Digi-Key; Supplier Part Number 1: LP5900TL-2.1TR-ND; Supplier 2: Digi-Key; Supplier Part Number 2: LP5900TL-2.1CT-ND; Supplier 3: Digi-Key; Supplier Part Number 3: LP5900TL-2.1DKR-ND; RoHS: Y; PinCount: 4; Code_JEDEC: MO-211-BA; ComponentLink1Description: LP5900 Datasheet; ComponentLink1URL: http://www.national.com/ds/LP/LP5900.pdf; ComponentLink2Description: LP5900 Web Page; ComponentLink2URL: http://www.national.com/pf/LP/LP5900.html; ComponentLink3Description: TLA04BCA Package Page; ComponentLink3URL: http://www.national.com/packaging/folders/tla04bca.html
footprint TLA04BCA (Micro SMD, 4-Leads, Body 1.07x1.04mm, Pitch 0.5mm, NSC Recommended)
pins: A1 EN (in), A2 IN (power), B1 GND (power), B2 OUT (power)

## LP5900TL-2.2/NOPB
designator U?
Ultra Low Noise, 150mA Linear Regulator for RF/Analog Circuits Requires No Bypass Capacitor, 4-pin Micro SMD, Pb-Free; PartNumber: LP5900TL-2.2/NOPB; Manufacturer: National Semiconductor; PackageTopMarking: X*I; PowerWise: N; CompType: LDO IC; Published: 1-Mar-2010; DatasheetVersion: Jul-2010; PackageVersion: revD, Mar-2005; PackageReference: TLA04BCA; Publisher: Altium Limited; PackageDescription: Thin Micro SMD, 4 Bump (Large), 0.5mm Pitch; Supplier 1: Digi-Key; Supplier Part Number 1: LP5900TL-2.2TR-ND; Supplier 2: Digi-Key; Supplier Part Number 2: LP5900TL-2.2CT-ND; Supplier 3: Digi-Key; Supplier Part Number 3: LP5900TL-2.2DKR-ND; RoHS: Y; PinCount: 4; Code_JEDEC: MO-211-BA; ComponentLink1Description: LP5900 Datasheet; ComponentLink1URL: http://www.national.com/ds/LP/LP5900.pdf; ComponentLink2Description: LP5900 Web Page; ComponentLink2URL: http://www.national.com/pf/LP/LP5900.html; ComponentLink3Description: TLA04BCA Package Page; ComponentLink3URL: http://www.national.com/packaging/folders/tla04bca.html
footprint TLA04BCA (Micro SMD, 4-Leads, Body 1.07x1.04mm, Pitch 0.5mm, NSC Recommended)
pins: A1 EN (in), A2 IN (power), B1 GND (power), B2 OUT (power)

## LP5900TL-2.3/NOPB
designator U?
Ultra Low Noise, 150mA Linear Regulator for RF/Analog Circuits Requires No Bypass Capacitor, 4-pin Micro SMD, Pb-Free; PartNumber: LP5900TL-2.3/NOPB; Manufacturer: National Semiconductor; PackageTopMarking: X*I; PowerWise: N; CompType: LDO IC; Published: 1-Mar-2010; DatasheetVersion: Jul-2010; PackageVersion: revD, Mar-2005; PackageReference: TLA04BCA; Publisher: Altium Limited; PackageDescription: Thin Micro SMD, 4 Bump (Large), 0.5mm Pitch; Supplier 1: Digi-Key; Supplier Part Number 1: LP5900TL-2.3TR-ND; Supplier 2: Digi-Key; Supplier Part Number 2: LP5900TL-2.3CT-ND; Supplier 3: Digi-Key; Supplier Part Number 3: LP5900TL-2.3DKR-ND; RoHS: Y; PinCount: 4; Code_JEDEC: MO-211-BA; ComponentLink1Description: LP5900 Datasheet; ComponentLink1URL: http://www.national.com/ds/LP/LP5900.pdf; ComponentLink2Description: LP5900 Web Page; ComponentLink2URL: http://www.national.com/pf/LP/LP5900.html; ComponentLink3Description: TLA04BCA Package Page; ComponentLink3URL: http://www.national.com/packaging/folders/tla04bca.html
footprint TLA04BCA (Micro SMD, 4-Leads, Body 1.07x1.04mm, Pitch 0.5mm, NSC Recommended)
pins: A1 EN (in), A2 IN (power), B1 GND (power), B2 OUT (power)

## LP5900TL-2.5/NOPB
designator U?
Ultra Low Noise, 150mA Linear Regulator for RF/Analog Circuits Requires No Bypass Capacitor, 4-pin Micro SMD, Pb-Free; PartNumber: LP5900TL-2.5/NOPB; Manufacturer: National Semiconductor; PackageTopMarking: X*I; PowerWise: N; CompType: LDO IC; Published: 1-Mar-2010; DatasheetVersion: Jul-2010; PackageVersion: revD, Mar-2005; PackageReference: TLA04BCA; Publisher: Altium Limited; PackageDescription: Thin Micro SMD, 4 Bump (Large), 0.5mm Pitch; Supplier 1: Digi-Key; Supplier Part Number 1: LP5900TL-2.5TR-ND; Supplier 2: Digi-Key; Supplier Part Number 2: LP5900TL-2.5CT-ND; Supplier 3: Digi-Key; Supplier Part Number 3: LP5900TL-2.5DKR-ND; Supplier 4: Farnell; Supplier Part Number 4: 1685770; RoHS: Y; PinCount: 4; Code_JEDEC: MO-211-BA; ComponentLink1Description: LP5900 Datasheet; ComponentLink1URL: http://www.national.com/ds/LP/LP5900.pdf; ComponentLink2Description: LP5900 Web Page; ComponentLink2URL: http://www.national.com/pf/LP/LP5900.html; ComponentLink3Description: TLA04BCA Package Page; ComponentLink3URL: http://www.national.com/packaging/folders/tla04bca.html
footprint TLA04BCA (Micro SMD, 4-Leads, Body 1.07x1.04mm, Pitch 0.5mm, NSC Recommended)
pins: A1 EN (in), A2 IN (power), B1 GND (power), B2 OUT (power)

## LP5900TL-2.6/NOPB
designator U?
Ultra Low Noise, 150mA Linear Regulator for RF/Analog Circuits Requires No Bypass Capacitor, 4-pin Micro SMD, Pb-Free; PartNumber: LP5900TL-2.6/NOPB; Manufacturer: National Semiconductor; PackageTopMarking: X*I; PowerWise: N; CompType: LDO IC; Published: 1-Mar-2010; DatasheetVersion: Jul-2010; PackageVersion: revD, Mar-2005; PackageReference: TLA04BCA; Publisher: Altium Limited; PackageDescription: Thin Micro SMD, 4 Bump (Large), 0.5mm Pitch; Supplier 1: Digi-Key; Supplier Part Number 1: LP5900TL-2.6/NOPBTR-ND; Supplier 2: Digi-Key; Supplier Part Number 2: LP5900TL-2.6/NOPBCT-ND; Supplier 3: Digi-Key; Supplier Part Number 3: LP5900TL-2.6/NOPBDKR-ND; RoHS: Y; PinCount: 4; Code_JEDEC: MO-211-BA; ComponentLink1Description: LP5900 Datasheet; ComponentLink1URL: http://www.national.com/ds/LP/LP5900.pdf; ComponentLink2Description: LP5900 Web Page; ComponentLink2URL: http://www.national.com/pf/LP/LP5900.html; ComponentLink3Description: TLA04BCA Package Page; ComponentLink3URL: http://www.national.com/packaging/folders/tla04bca.html
footprint TLA04BCA (Micro SMD, 4-Leads, Body 1.07x1.04mm, Pitch 0.5mm, NSC Recommended)
pins: A1 EN (in), A2 IN (power), B1 GND (power), B2 OUT (power)

## LP5900TL-2.7/NOPB
designator U?
Ultra Low Noise, 150mA Linear Regulator for RF/Analog Circuits Requires No Bypass Capacitor, 4-pin Micro SMD, Pb-Free; PartNumber: LP5900TL-2.7/NOPB; Manufacturer: National Semiconductor; PackageTopMarking: X*I; PowerWise: N; CompType: LDO IC; Published: 1-Mar-2010; DatasheetVersion: Jul-2010; PackageVersion: revD, Mar-2005; PackageReference: TLA04BCA; Publisher: Altium Limited; PackageDescription: Thin Micro SMD, 4 Bump (Large), 0.5mm Pitch; Supplier 1: Digi-Key; Supplier Part Number 1: LP5900TL-2.7TR-ND; Supplier 2: Digi-Key; Supplier Part Number 2: LP5900TL-2.7CT-ND; Supplier 3: Digi-Key; Supplier Part Number 3: LP5900TL-2.7DKR-ND; RoHS: Y; PinCount: 4; Code_JEDEC: MO-211-BA; ComponentLink1Description: LP5900 Datasheet; ComponentLink1URL: http://www.national.com/ds/LP/LP5900.pdf; ComponentLink2Description: LP5900 Web Page; ComponentLink2URL: http://www.national.com/pf/LP/LP5900.html; ComponentLink3Description: TLA04BCA Package Page; ComponentLink3URL: http://www.national.com/packaging/folders/tla04bca.html
footprint TLA04BCA (Micro SMD, 4-Leads, Body 1.07x1.04mm, Pitch 0.5mm, NSC Recommended)
pins: A1 EN (in), A2 IN (power), B1 GND (power), B2 OUT (power)

## LP5900TL-2.8/NOPB
designator U?
Ultra Low Noise, 150mA Linear Regulator for RF/Analog Circuits Requires No Bypass Capacitor, 4-pin Micro SMD, Pb-Free; PartNumber: LP5900TL-2.8/NOPB; Manufacturer: National Semiconductor; PackageTopMarking: X*I; PowerWise: N; CompType: LDO IC; Published: 1-Mar-2010; DatasheetVersion: Jul-2010; PackageVersion: revD, Mar-2005; PackageReference: TLA04BCA; Publisher: Altium Limited; PackageDescription: Thin Micro SMD, 4 Bump (Large), 0.5mm Pitch; Supplier 1: Digi-Key; Supplier Part Number 1: LP5900TL-2.8TR-ND; Supplier 2: Digi-Key; Supplier Part Number 2: LP5900TL-2.8CT-ND; Supplier 3: Digi-Key; Supplier Part Number 3: LP5900TL-2.8DKR-ND; RoHS: Y; PinCount: 4; Code_JEDEC: MO-211-BA; ComponentLink1Description: LP5900 Datasheet; ComponentLink1URL: http://www.national.com/ds/LP/LP5900.pdf; ComponentLink2Description: LP5900 Web Page; ComponentLink2URL: http://www.national.com/pf/LP/LP5900.html; ComponentLink3Description: TLA04BCA Package Page; ComponentLink3URL: http://www.national.com/packaging/folders/tla04bca.html
footprint TLA04BCA (Micro SMD, 4-Leads, Body 1.07x1.04mm, Pitch 0.5mm, NSC Recommended)
pins: A1 EN (in), A2 IN (power), B1 GND (power), B2 OUT (power)